# Altium schematic symbol library FH28E-40S-0.5SH.Schlib: 1 symbol
Pins are listed as number, name and electrical type; pins without a type are passive.

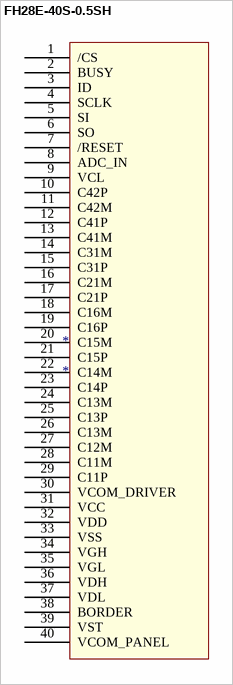
[diagram p0: symbol FH28E-40S-0.5SH]

## FH28E-40S-0.5SH
designator *
CONN RCPT SM FPC 40POS 0.5MM PITCH 3MM THICK
pins: 1 /CS, 2 BUSY, 3 ID, 4 SCLK, 5 SI, 6 SO, 7 /RESET, 8 ADC_IN, 9 VCL, 10 C42P, 11 C42M, 12 C41P, 13 C41M, 14 C31M, 15 C31P, 16 C21M, 17 C21P, 18 C16M, 19 C16P, 20 C15M, 21 C15P, 22 C14M, 23 C14P, 24 C13M, 25 C13P, 26 C13M, 27 C12M, 28 C11M, 29 C11P, 30 VCOM_DRIVER, 31 VCC, 32 VDD, 33 VSS, 34 VGH, 35 VGL, 36 VDH, 37 VDL, 38 BORDER, 39 VST, 40 VCOM_PANEL